# Altium footprint library Components GOST.PcbLib: 34 footprints (part 2 of 3)
Each footprint in its own frame and in the unit in brackets; x right, y up, seen from the top. Pads: shape width x height; smd on the part's side, far side on the other; paste and mask are expansions set on the pad; w line width, h text height; cw(c..) or ccw(c..) is an arc to the next point about the centre after c.
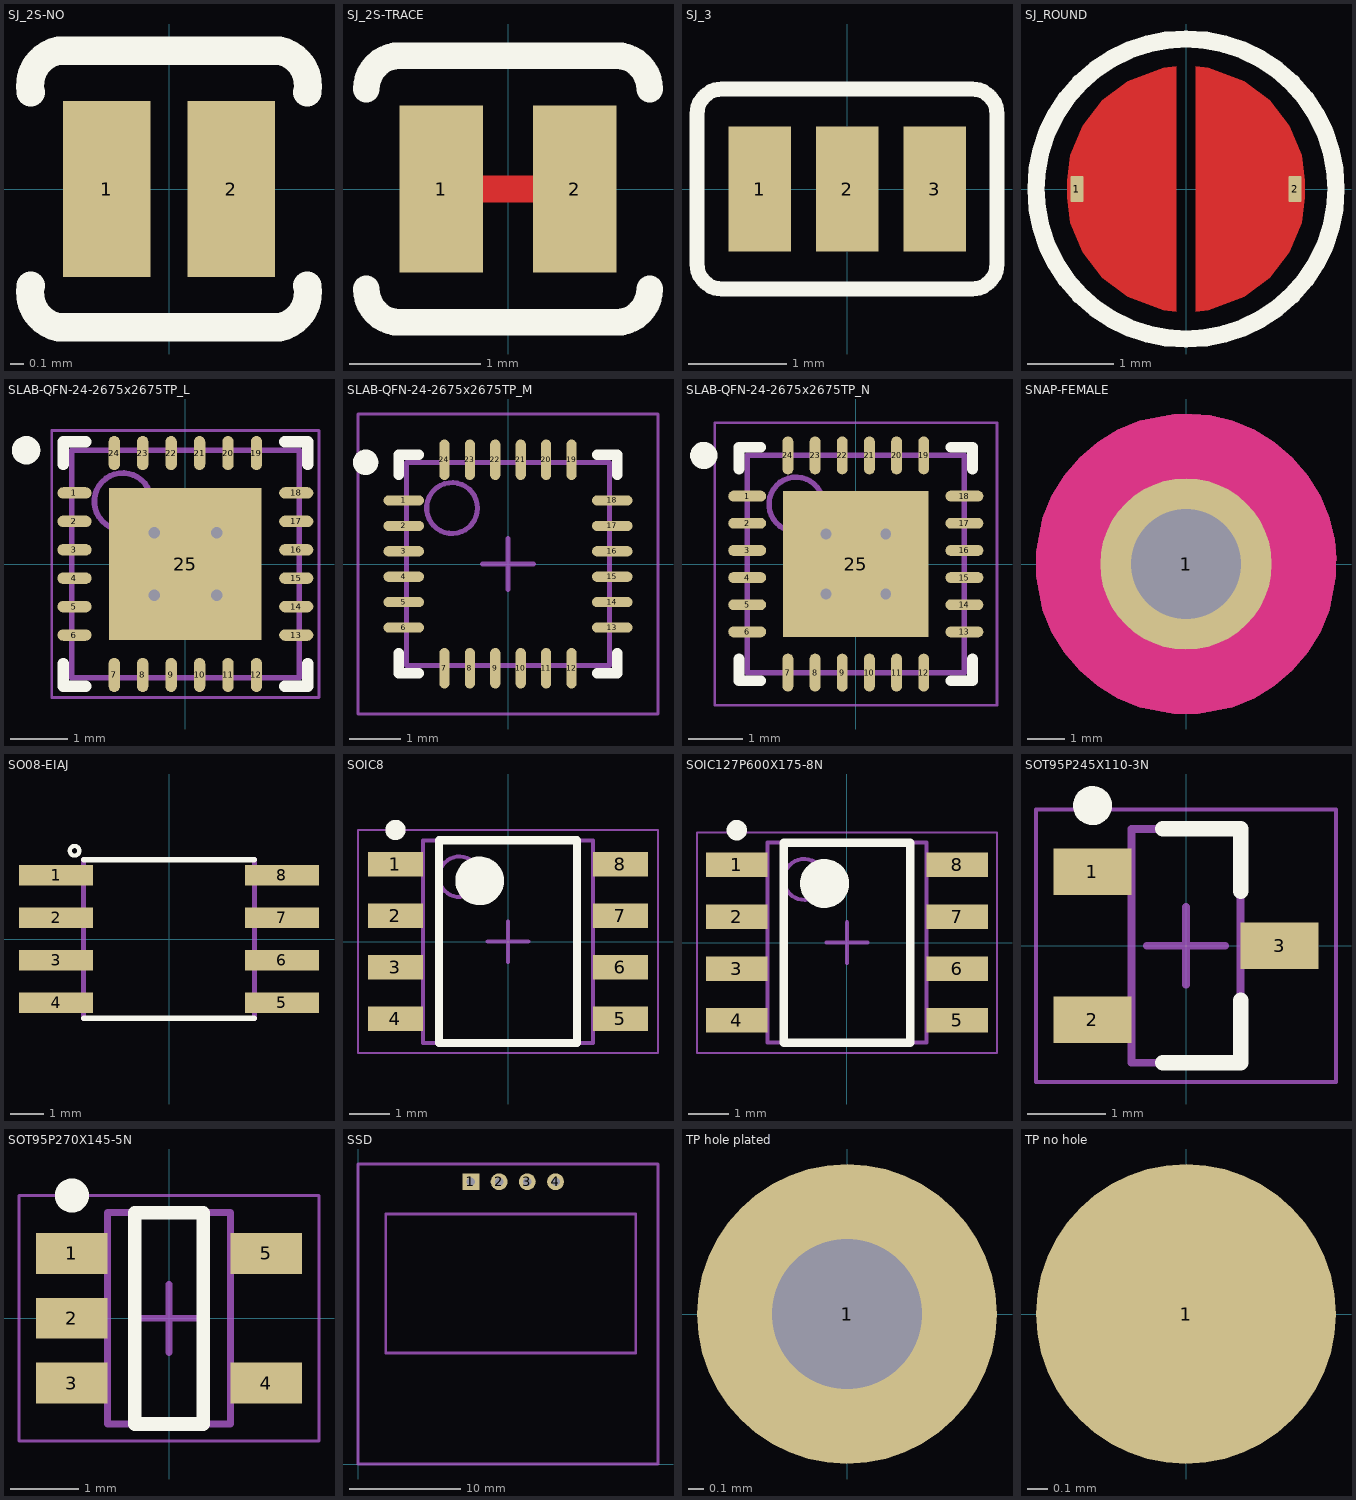
[diagram p1: the footprints below, top view; thin cyan lines are the x and y axes]

## SJ_2S-NO [mm]
pads (2):
  rect 0.635x1.27 smd: 1(-0.45,0) 2(0.45,0)
Top Overlay:
  lines w0.203: -1,-0.7 ccw(c-0.75,-0.75) -0.8,-1 0.8,-1 ccw(c0.75,-0.75) 1,-0.7 ; -1,0.7 cw(c-0.75,0.75) -0.8,1 0.8,1 cw(c0.75,0.75) 1,0.7

## SJ_2S-TRACE [mil]
pads (2):
  rect 25x50 smd: 1(-20,0) 2(20,0)
Top Layer:
  lines w8: -15,0 15,0
Top Overlay:
  lines w8: -42.5,-30 ccw(c-32.5,-30) -32.5,-40 32.5,-40 ccw(c32.5,-30) 42.5,-30 ; -42.5,30 cw(c-32.5,30) -32.5,40 32.5,40 cw(c32.5,30) 42.5,30

## SJ_3 [mil]
pads (3):
  rect 25x50 smd: 1(-35,0) 2(0,0) 3(35,0)
Top Overlay:
  lines w6: -60,-30 ccw(c-50,-30) -50,-40 50,-40 ccw(c50,-30) 60,-30 60,30 ccw(c50,30) 50,40 -50,40 ccw(c-50,30) -60,30 -60,-30

## SJ_ROUND [mil]
pads (2):
  rrect20% 6x12 smd: 1(-50,0) 2(50,0)
Top Layer:
  region: 4.38,-56.25 10.24,-55.65 26.78,-49.5 38.41,-40.57 47.34,-28.93 52.95,-15.38 54.44,-3.86 54.38,0 54.44,3.86 52.95,15.38 47.34,28.93 38.41,40.57 26.78,49.5 10.24,55.65 4.38,56.25
  region: -4.38,56.25 -4.38,-56.25 -10.24,-55.65 -26.78,-49.5 -38.41,-40.57 -47.34,-28.93 -52.95,-15.38 -54.44,-3.86 -54.38,0 -54.44,3.86 -52.95,15.38 -47.34,28.93 -38.41,40.57 -26.78,49.5 -10.24,55.65
Top Overlay:
  circle w8: c0,0 r68.75
Top Solder:
  region: 0,56.25 3.69,56.25 14.68,54.8 28.37,49.13 40.12,40.12 49.13,28.37 54.8,14.68 56.25,3.69 56.25,0 56.25,-3.69 54.8,-14.68 49.13,-28.37 40.12,-40.12 28.37,-49.13 14.68,-54.8 3.69,-56.25 0,-56.25 -3.69,-56.25 -14.68,-54.8 -28.37,-49.13 -40.12,-40.12 -49.13,-28.37 -54.8,-14.68 -56.25,-3.69 -56.25,0 -56.25,3.69 -54.8,14.68 -49.13,28.37 -40.12,40.12 -28.37,49.13 -14.68,54.8 -3.69,56.25

## SLAB-QFN-24-2675x2675TP_L [mm] "QFN, 24-Leads, Body 4x4mm, Pitch 0.5mm, Thermal Pad 2.68x2.68mm, IPC High Density"
height 0.8
pads (25):
  oval 0.6x0.2 smd: 1(-1.95,1.25) 2(-1.95,0.75) 3(-1.95,0.25) 4(-1.95,-0.25) 5(-1.95,-0.75) 6(-1.95,-1.25) 13(1.95,-1.25) 14(1.95,-0.75) 15(1.95,-0.25) 16(1.95,0.25) 17(1.95,0.75) 18(1.95,1.25)
  oval 0.2x0.6 smd: 7(-1.25,-1.95) 8(-0.75,-1.95) 9(-0.25,-1.95) 10(0.25,-1.95) 11(0.75,-1.95) 12(1.25,-1.95) 19(1.25,1.95) 20(0.75,1.95) 21(0.25,1.95) 22(-0.25,1.95) 23(-0.75,1.95) 24(-1.25,1.95)
  rect 2.68x2.68 smd: 25(0,0)
via -0.55,0.55 diameter 0.5 hole 0.2
via 0.55,0.55 diameter 0.5 hole 0.2
via -0.55,-0.55 diameter 0.5 hole 0.2
via 0.55,-0.55 diameter 0.5 hole 0.2
Top Overlay:
  circle w0.25: c-2.8,2 r0.125
  lines w0.2: -2.15,-1.75 -2.15,-2.15 -1.75,-2.15 ; -2.15,1.75 -2.15,2.15 -1.75,2.15 ; 1.75,-2.15 2.15,-2.15 2.15,-1.75 ; 1.75,2.15 2.15,2.15 2.15,1.75
Mechanical 13:
  circle w0.1: c-1.1,1.1 r0.5
  lines w0.1: -2,-2 -2,2 2,2 2,-2 -2,-2
Mechanical 15:
  lines w0.05: -2.35,-2.35 -2.35,2.35 2.35,2.35 2.35,-2.35 -2.35,-2.35
  lines w0.1: -0.5,0 0.5,0 ; 0,-0.5 0,0.5
3D body: height 0.8, standoff 0, extent -2,-2 2,2

## SLAB-QFN-24-2675x2675TP_M [mm] "QFN, 24-Leads, Body 4x4mm, Pitch 0.5mm, Thermal Pad 2.68x2.68mm, IPC Low Density"
height 0.8
pads (24):
  oval 0.8x0.2 smd: 1(-2.05,1.25) 2(-2.05,0.75) 3(-2.05,0.25) 4(-2.05,-0.25) 5(-2.05,-0.75) 6(-2.05,-1.25) 13(2.05,-1.25) 14(2.05,-0.75) 15(2.05,-0.25) 16(2.05,0.25) 17(2.05,0.75) 18(2.05,1.25)
  oval 0.2x0.8 smd: 7(-1.25,-2.05) 8(-0.75,-2.05) 9(-0.25,-2.05) 10(0.25,-2.05) 11(0.75,-2.05) 12(1.25,-2.05) 19(1.25,2.05) 20(0.75,2.05) 21(0.25,2.05) 22(-0.25,2.05) 23(-0.75,2.05) 24(-1.25,2.05)
Top Overlay:
  circle w0.25: c-2.8,2 r0.125
  lines w0.2: -2.15,-1.75 -2.15,-2.15 -1.75,-2.15 ; -2.15,1.75 -2.15,2.15 -1.75,2.15 ; 1.75,-2.15 2.15,-2.15 2.15,-1.75 ; 1.75,2.15 2.15,2.15 2.15,1.75
Mechanical 13:
  circle w0.1: c-1.1,1.1 r0.5
  lines w0.1: -2,-2 2,-2 2,2 -2,2 -2,-2
Mechanical 15:
  lines w0.05: -2.95,-2.95 2.95,-2.95 2.95,2.95 -2.95,2.95 -2.95,-2.95
  lines w0.1: -0.5,0 0.5,0 ; 0,-0.5 0,0.5
3D body: height 0.8, standoff 0, extent -2,-2 2,2

## SLAB-QFN-24-2675x2675TP_N [mm] "QFN, 24-Leads, Body 4x4mm, Pitch 0.5mm, Thermal Pad 2.68x2.68mm, IPC Medium Density"
height 0.8
pads (25):
  oval 0.7x0.2 smd: 1(-2,1.25) 2(-2,0.75) 3(-2,0.25) 4(-2,-0.25) 5(-2,-0.75) 6(-2,-1.25) 13(2,-1.25) 14(2,-0.75) 15(2,-0.25) 16(2,0.25) 17(2,0.75) 18(2,1.25)
  oval 0.2x0.7 smd: 7(-1.25,-2) 8(-0.75,-2) 9(-0.25,-2) 10(0.25,-2) 11(0.75,-2) 12(1.25,-2) 19(1.25,2) 20(0.75,2) 21(0.25,2) 22(-0.25,2) 23(-0.75,2) 24(-1.25,2)
  rect 2.68x2.68 smd: 25(0,0)
via 0.55,-0.55 diameter 0.5 hole 0.2
via -0.55,-0.55 diameter 0.5 hole 0.2
via 0.55,0.55 diameter 0.5 hole 0.2
via -0.55,0.55 diameter 0.5 hole 0.2
Top Overlay:
  circle w0.25: c-2.8,2 r0.125
  lines w0.2: -2.15,-1.75 -2.15,-2.15 -1.75,-2.15 ; -2.15,1.75 -2.15,2.15 -1.75,2.15 ; 1.75,-2.15 2.15,-2.15 2.15,-1.75 ; 1.75,2.15 2.15,2.15 2.15,1.75
Mechanical 13:
  circle w0.1: c-1.1,1.1 r0.5
  lines w0.1: -2,-2 2,-2 2,2 -2,2 -2,-2
Mechanical 15:
  lines w0.05: -2.6,-2.6 2.6,-2.6 2.6,2.6 -2.6,2.6 -2.6,-2.6
  lines w0.1: -0.5,0 0.5,0 ; 0,-0.5 0,0.5
3D body: height 0.8, standoff 0, extent -2,-2 2,2

## SNAP-FEMALE [mil]
pads (1):
  round 180 hole 115: 1(0,0)
Top Layer:
  region: -157.5,0 -157.5,12.39 -150.25,48.82 -140.77,71.72 -127.81,92.86 -111.71,111.71 -92.86,127.81 -71.72,140.77 -48.82,150.25 -12.39,157.5 0,157.5 6.19,157.5 24.72,156.04 48.82,150.25 71.73,140.77 92.86,127.81 111.71,111.71 127.81,92.86 140.77,71.73 150.25,48.82 156.04,24.72 157.5,6.19 157.5,0 157.5,-12.39 150.25,-48.82 140.77,-71.72 127.81,-92.86 111.71,-111.71 92.86,-127.81 71.72,-140.77 48.82,-150.25 12.39,-157.5 0,-157.5 -12.39,-157.5 -48.82,-150.25 -71.72,-140.77 -92.86,-127.81 -111.71,-111.71 -127.81,-92.86 -140.77,-71.72 -150.25,-48.82 -157.5,-12.39
Top Paste:
  region: -157.5,0 -157.5,12.39 -150.25,48.82 -140.77,71.72 -127.81,92.86 -111.71,111.71 -92.86,127.81 -71.72,140.77 -48.82,150.25 -12.39,157.5 0,157.5 6.19,157.5 24.72,156.04 48.82,150.25 71.73,140.77 92.86,127.81 111.71,111.71 127.81,92.86 140.77,71.73 150.25,48.82 156.04,24.72 157.5,6.19 157.5,0 157.5,-12.39 150.25,-48.82 140.77,-71.72 127.81,-92.86 111.71,-111.71 92.86,-127.81 71.72,-140.77 48.82,-150.25 12.39,-157.5 0,-157.5 -12.39,-157.5 -48.82,-150.25 -71.72,-140.77 -92.86,-127.81 -111.71,-111.71 -127.81,-92.86 -140.77,-71.72 -150.25,-48.82 -157.5,-12.39
Top Solder:
  region: -157.5,0 -157.5,6.19 -156.04,24.72 -150.25,48.82 -140.77,71.73 -127.81,92.86 -111.71,111.71 -92.86,127.81 -71.73,140.77 -48.82,150.25 -24.72,156.04 -6.19,157.5 0,157.5 6.19,157.5 24.72,156.04 48.82,150.25 71.73,140.77 92.86,127.81 111.71,111.71 127.81,92.86 140.77,71.73 150.25,48.82 156.04,24.72 157.5,6.19 157.5,0 157.5,-12.39 150.25,-48.82 140.77,-71.72 127.81,-92.86 111.71,-111.71 92.86,-127.81 71.72,-140.77 48.82,-150.25 12.39,-157.5 0,-157.5 -12.39,-157.5 -48.82,-150.25 -71.72,-140.77 -92.86,-127.81 -111.71,-111.71 -127.81,-92.86 -140.77,-71.72 -150.25,-48.82 -157.5,-12.39
Mechanical 8 keep-out:
  region: -157.5,0 -157.5,12.39 -150.25,48.82 -140.77,71.72 -127.81,92.86 -111.71,111.71 -92.86,127.81 -71.72,140.77 -48.82,150.25 -12.39,157.5 0,157.5 6.19,157.5 24.72,156.04 48.82,150.25 71.73,140.77 92.86,127.81 111.71,111.71 127.81,92.86 140.77,71.73 150.25,48.82 156.04,24.72 157.5,6.19 157.5,0 157.5,-12.39 150.25,-48.82 140.77,-71.72 127.81,-92.86 111.71,-111.71 92.86,-127.81 71.72,-140.77 48.82,-150.25 12.39,-157.5 0,-157.5 -12.39,-157.5 -48.82,-150.25 -71.72,-140.77 -92.86,-127.81 -111.71,-111.71 -127.81,-92.86 -140.77,-71.72 -150.25,-48.82 -157.5,-12.39

## SO08-EIAJ [mil]
pads (8):
  rect 87x24 smd: 1(-133,75) 2(-133,25) 3(-133,-25) 4(-133,-75) 5(132,-75) 6(132,-25) 7(132,25) 8(132,75)
Top Overlay:
  circle w5: c-111.3,103.5 r5.65
  lines w6: -100.98,-92.99 99.98,-92.99 ; -100.98,92.99 99.98,92.99
Mechanical 16:
  region: -143,82 -143,68 -103,68 -103,82
  region: -143,32 -143,18 -103,18 -103,32
  region: -143,-18 -143,-32 -103,-32 -103,-18
  region: -143,-68 -143,-82 -103,-82 -103,-68
  region: 102,82 102,68 142,68 142,82
  region: 102,32 102,18 142,18 142,32
  region: 102,-18 102,-32 142,-32 142,-18
  region: 102,-68 102,-82 142,-82 142,-68
  lines w6: -100.98,-92.99 -100.98,92.99 ; 99.98,-92.99 99.98,92.99

## SOIC8 [mm] "SOIC, 8-Leads, Body 4,90x4,00mm, Pitch 1,27mm, IPC Medium Density"
height 1.75
pads (8):
  rect 1.35x0.6 smd: 1(-2.775,1.905) 2(-2.775,0.635) 3(-2.775,-0.635) 4(-2.775,-1.905) 5(2.775,-1.905) 6(2.775,-0.635) 7(2.775,0.635) 8(2.775,1.905)
Top Overlay:
  circle w0.25: c-2.775,2.755 r0.125
  circle w0.6: c-0.7,1.5 r0.3
  lines w0.2: -1.7,-2.5 -1.7,2.5 1.7,2.5 1.7,-2.5 -1.7,-2.5
Mechanical 13:
  circle w0.1: c-1.2,1.6 r0.5
  lines w0.1: -2.1,-2.5 -2.1,2.5 2.1,2.5 2.1,-2.5 -2.1,-2.5
Mechanical 15:
  lines w0.05: -3.7,-2.75 -3.7,2.75 3.7,2.75 3.7,-2.75 -3.7,-2.75
  lines w0.1: -0.5,0 0.5,0 ; 0,-0.5 0,0.5
3D body: height 1.75, standoff 0.1, extent -2.1,-2.5 2.1,2.5

## SOIC127P600X175-8N [mm] "SOIC, 8-Leads, Body 4,90x3,90mm, Pitch 1,27mm, IPC Medium Density"
height 1.75
pads (8):
  rect 1.5x0.6 smd: 1(-2.7,1.905) 2(-2.7,0.635) 3(-2.7,-0.635) 4(-2.7,-1.905) 5(2.7,-1.905) 6(2.7,-0.635) 7(2.7,0.635) 8(2.7,1.905)
Top Overlay:
  circle w0.6: c-0.55,1.45 r0.3
  circle w0.25: c-2.7,2.755 r0.125
  lines w0.2: -1.55,-2.45 1.55,-2.45 1.55,2.45 -1.55,2.45 -1.55,-2.45
Mechanical 13:
  circle w0.1: c-1.05,1.55 r0.5
  lines w0.1: -1.95,-2.45 1.95,-2.45 1.95,2.45 -1.95,2.45 -1.95,-2.45
Mechanical 15:
  lines w0.05: -3.675,-2.7 3.675,-2.7 3.675,2.7 -3.675,2.7 -3.675,-2.7
  lines w0.1: -0.5,0 0.5,0 ; 0,-0.5 0,0.5
3D body: height 1.75, standoff 0.1, extent -1.95,-2.45 1.95,2.45

## SOT95P245X110-3N [mm] "SOT23, 3-Leads, Body 2,90x2,45mm, Pitch 0,95mm, IPC Medium Density"
height 1.1
pads (3):
  rect 1x0.6 smd: 1(-1.2,0.95) 2(-1.2,-0.95) 3(1.2,0)
Top Overlay:
  circle w0.25: c-1.2,1.8 r0.125
  lines w0.2: -0.3,-1.5 0.7,-1.5 0.7,-0.7 ; -0.3,1.5 0.7,1.5 0.7,0.7
Mechanical 13:
  lines w0.1: -0.7,-1.5 -0.7,1.5 0.7,1.5 0.7,-1.5 -0.7,-1.5
Mechanical 15:
  lines w0.05: -1.925,-1.75 -1.925,1.75 1.925,1.75 1.925,-1.75 -1.925,-1.75
  lines w0.1: -0.5,0 0.5,0 ; 0,-0.5 0,0.5
3D body: height 1.1, standoff 0.05, extent -0.7,-1.5 0.7,1.5

## SOT95P270X145-5N [mm] "SOT23, 5-Leads, Body 2,90x2,70mm, Pitch 0,95mm, IPC Medium Density"
height 1.45
pads (5):
  rect 1.05x0.6 smd: 1(-1.425,0.95) 2(-1.425,0) 3(-1.425,-0.95) 4(1.425,-0.95) 5(1.425,0.95)
Top Overlay:
  circle w0.25: c-1.425,1.8 r0.125
  lines w0.2: -0.5,-1.55 0.5,-1.55 0.5,1.55 -0.5,1.55 -0.5,-1.55
Mechanical 13:
  lines w0.1: -0.9,-1.55 -0.9,1.55 0.9,1.55 0.9,-1.55 -0.9,-1.55
Mechanical 15:
  lines w0.05: -2.2,-1.8 -2.2,1.8 2.2,1.8 2.2,-1.8 -2.2,-1.8
  lines w0.1: -0.5,0 0.5,0 ; 0,-0.5 0,0.5
3D body: height 1.45, standoff 0.05, extent -0.9,-1.55 0.9,1.55

## SSD [mil]
pads (4):
  rect 60x60 hole 30: 1(400,1000)
  round 60 hole 30: 2(500,1000) 3(600,1000) 4(700,1000)
Mechanical 1:
  lines w10: 0,0 0,1062.99 1062.99,1062.99 1062.99,0 0,0 ; 98.43,393.7 98.43,885.83 984.25,885.83 984.25,393.7 98.43,393.7
3D body: height 472.44, standoff 393.7, extent 0,0 1062.99,1062.99

## TP hole plated [mm]
pads (1):
  round 2 hole 1: 1(0,0)

## TP no hole [mm]
pads (1):
  round 1.5 smd: 1(0,0)